# Altium footprint library PCB2.PcbLib: 98 footprints (part 6 of 7)
Each footprint in its own frame and in the unit in brackets; x right, y up, seen from the top. Pads: shape width x height; smd on the part's side, far side on the other; paste and mask are expansions set on the pad; w line width, h text height; cw(c..) or ccw(c..) is an arc to the next point about the centre after c.
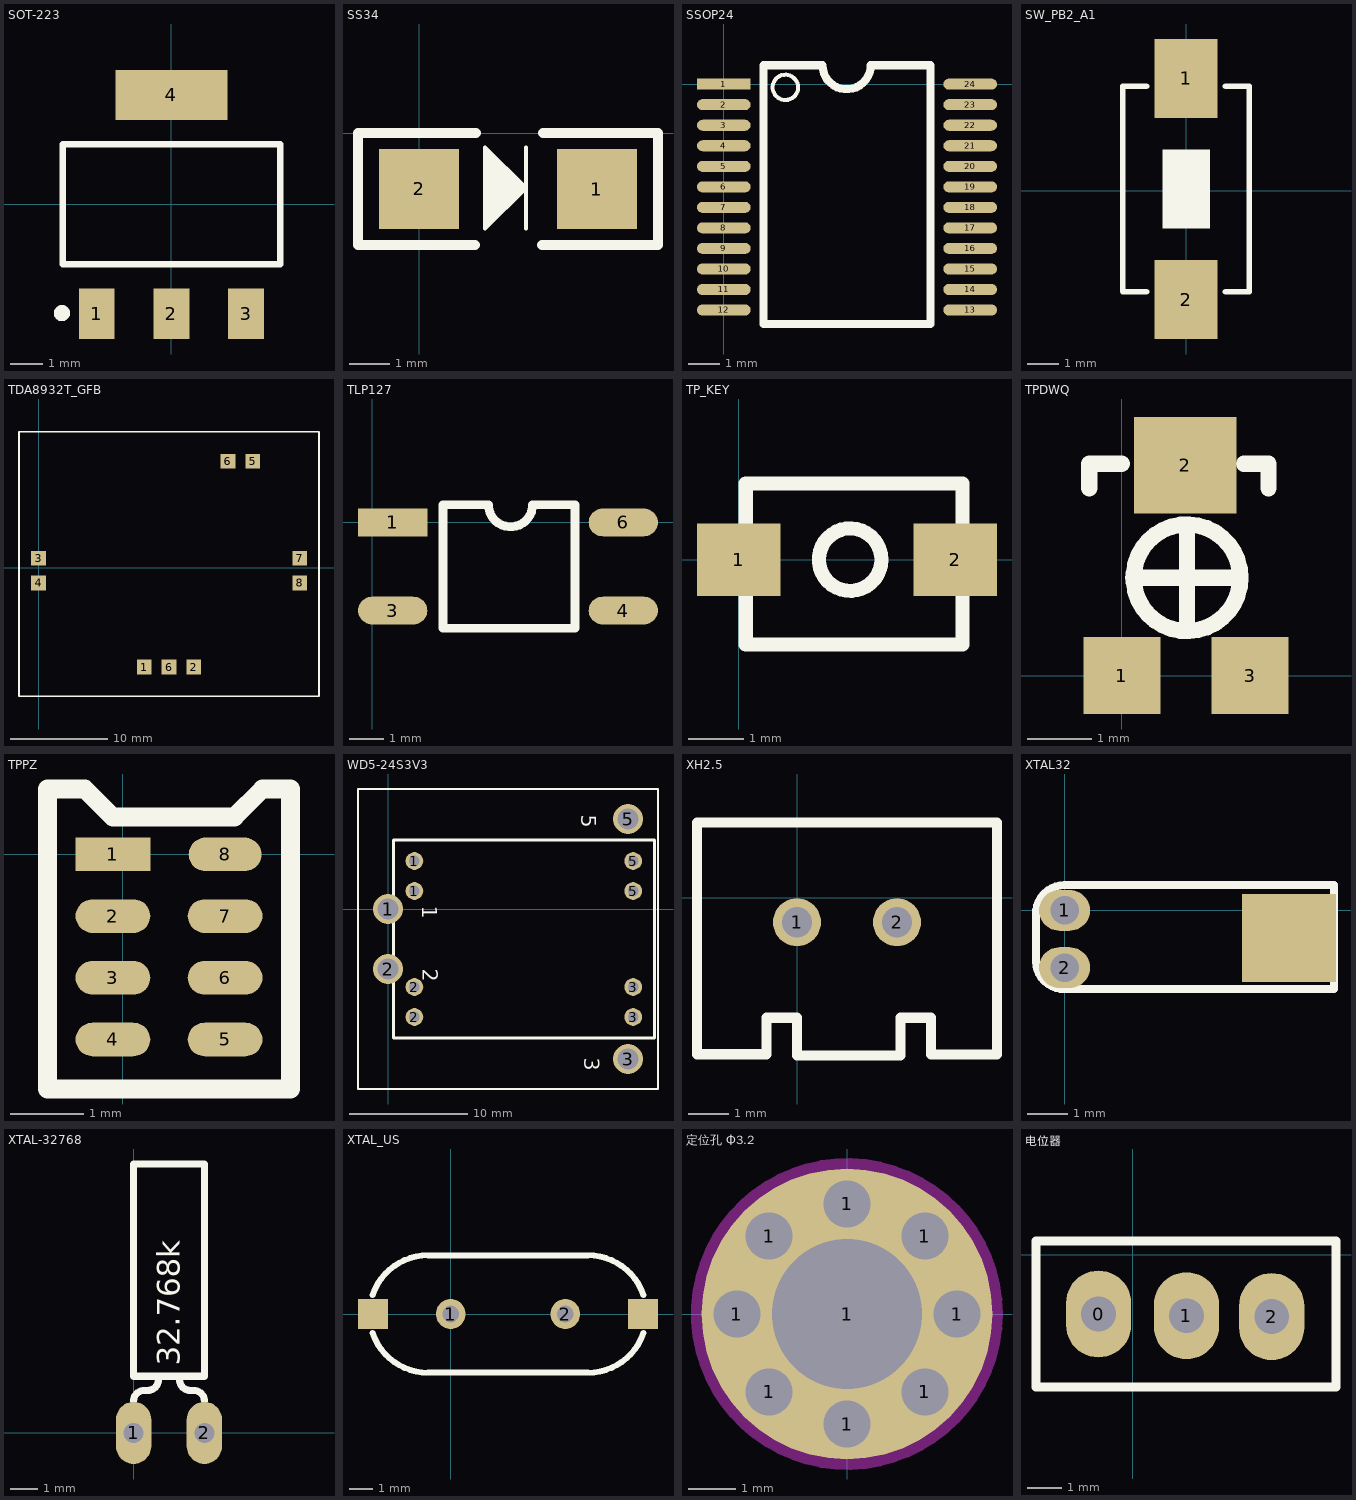
[diagram p5: the footprints below, top view; thin cyan lines are the x and y axes]

## SOT-223 [mm]
height 1.8
pads (4):
  rect 1.1x1.55 smd: 1(-2.3,-3.375) 2(0,-3.375) 3(2.3,-3.375)
  rect 3.45x1.55 smd: 4(0,3.375)
Top Overlay:
  circle w0.25: c-3.376,-3.353 r0.125
  lines w0.2: -3.35,-1.85 3.35,-1.85 3.35,1.85 -3.35,1.85 -3.35,-1.85
3D body: height 0.3, standoff 0, extent 1.905,-3.937 2.794,-2.032
3D body: height 0.3, standoff 0, extent -0.508,-3.937 0.381,-2.032
3D body: height 0.3, standoff 0, extent -2.794,-3.937 -1.905,-2.032
3D body: height 0.3, standoff 0, extent -1.651,2.159 1.651,3.429
3D body: height 0.8, standoff 0, extent -3.302,-2.032 3.302,2.159

## SS34 [mm]
pads (2):
  rect 2x2 smd: 1(4.445,-1.397) 2(0,-1.395)
Top Overlay:
  region: 1.651,-0.356 2.667,-1.372 1.651,-2.388
  lines w0.1: 2.667,-2.388 2.667,-1.372 ; 2.667,-0.356 2.667,-1.372 ; 2.667,-1.372 1.651,-0.356 1.651,-2.388 2.667,-1.372
  lines w0.254: 1.393,-2.79 -1.524,-2.79 -1.524,0 1.422,0 ; 3.077,-2.79 5.969,-2.79 5.969,0 3.099,0

## SSOP24 [mm]
pads (24):
  rect 1.7x0.35 smd: 1(0,0)
  oval 1.7x0.35 smd: 2(0,-0.65) 3(0,-1.3) 4(0,-1.95) 5(0,-2.6) 6(0,-3.25) 7(0,-3.9) 8(0,-4.55) 9(0,-5.2) 10(0,-5.85) 11(0,-6.5) 12(0,-7.15) 13(7.8,-7.15) 14(7.8,-6.5) 15(7.8,-5.85) 16(7.8,-5.2) 17(7.8,-4.55) 18(7.8,-3.9) 19(7.8,-3.25) 20(7.8,-2.6) 21(7.8,-1.95) 22(7.8,-1.3) 23(7.8,-0.65) 24(7.8,0)
Top Overlay:
  circle w0.127: c1.948,-0.1 r0.402
  lines w0.254: 1.25,-7.6 6.55,-7.6 6.55,0.6 4.65,0.6 cw(c3.888,0.6) 3.126,0.6 1.25,0.6 1.25,-7.6

## SW_PB2_A1 [mm]
pads (2):
  rect 2x2.5 smd: 1(0,3.556) 2(0,-3.444)
Top Overlay:
  region: -0.747,1.309 -0.747,-1.191 0.753,-1.191 0.753,1.309
  lines w0.178: -1.25,-3.194 -2,-3.19 -2,3.306 -1.25,3.306 ; 1.25,-3.194 2,-3.194 2,3.306 1.25,3.306
3D body: height 0.8, standoff 0, extent -2.032,-3.175 2.032,3.302
3D body: height 1.2, standoff 0.8, extent -0.762,-1.143 0.762,1.27

## TDA8932T_GFB [mm]
pads (9):
  rect 1.5x1.5 smd: 1(10.795,-10.149) 2(15.875,-10.149) 3(0,0.991) 4(0,-1.549) 5(21.9,10.891) 6(13.335,-10.149) 6(19.36,10.891) 7(26.7,0.991) 8(26.7,-1.549)
Top Overlay:
  lines w0.2: -2,-13.132 -1.27,-13.132 27.94,-13.132 28.67,-13.132 28.67,-12.065 28.67,0 28.67,10.795 28.67,13.906 27.94,13.906 19.05,13.906 -1.27,13.906 -2,13.906 -2,10.795 -2,0 -2,-12.065 -2,-13.132

## TLP127 [mm]
height 1.75
pads (4):
  rect 2x0.8 smd: 1(0.589,-0.001)
  oval 2x0.8 smd: 3(0.589,-2.541) 4(7.239,-2.541) 6(7.239,-0.001)
Top Overlay:
  lines w0.254: 2.04,0.507 2.04,-3.049 4.834,-3.049 5.85,-3.049 5.85,0.507 4.623,0.507 ; 2.041,0.508 3.353,0.508 ccw(c3.988,0.508) 4.623,0.508

## TP_KEY [mm]
pads (2):
  rect 1.5x1.3 smd: 1(0,0) 2(3.9,0)
Top Overlay:
  circle w0.254: c2.007,0 r0.562
  lines w0.254: 0.127,-1.528 0.127,1.372 4.027,1.372 4.027,-1.528 0.127,-1.528

## TPDWQ [mm]
pads (3):
  rect 1.2x1.2 smd: 1(0,0) 3(2,0)
  rect 1.6x1.5 smd: 2(0.991,3.277)
Top Overlay:
  circle w0.254: c1.016,1.524 r0.832
  lines w0.254: -0.508,2.921 -0.508,3.302 0,3.302 ; 0.178,1.524 1.848,1.524 ; 1.016,0.737 1.016,2.337 ; 1.905,3.302 2.286,3.302 2.286,2.921

## TPPZ [mil]
pads (8):
  rect 40x18 smd: 1(-5.35,-0.18)
  oval 40x18 smd: 2(-5.35,-33.18) 3(-5.35,-66.18) 4(-5.35,-99.18) 5(54.65,-99.18) 6(54.65,-66.18) 7(54.65,-33.18)
  oval 39x18 smd: 8(54.65,-0.18)
Top Overlay:
  lines w10: 89.65,14.82 89.65,34.82 74.65,34.82 59.65,19.82 -5.35,19.82 -20.35,34.82 -40.35,34.82 -40.35,26.32 -40.35,-125.68 89.65,-125.68 89.65,26.32

## WD5-24S3V3 [mm]
pads (12):
  round 2.54 hole 1.778: 1(0,0) 2(0,-5.08) 3(20.32,-12.7) 5(20.32,7.62)
  round 1.5 hole 0.9: 1(2.235,1.524) 1(2.235,4.064) 2(2.235,-9.144) 2(2.235,-6.604) 3(20.759,-9.144) 3(20.759,-6.604) 5(20.759,1.524) 5(20.759,4.064)
Top Overlay:
  lines w0.203: -2.54,-15.24 -2.54,10.16 22.86,10.16 22.86,-15.24 -2.54,-15.24
  lines w0.254: 0.457,4.064 0.457,5.842 ; 2.235,5.842 0.457,5.842 ; 0.457,5.842 22.555,5.842 22.555,-10.922 18.981,-10.922 0.457,-10.922 0.457,5.842
  text "5" at 16.358,7.976 h1.27
  text "3" at 16.612,-12.573 h1.27
  text "2" at 2.946,-5.055 h1.27
  text "1" at 2.896,0.279 h1.27

## XH2.5 [mm]
pads (2):
  round 1.2 hole 0.762: 1(0,-0.61) 2(2.5,-0.61)
Top Overlay:
  lines w0.254: -2.5,-3.912 -0.762,-3.912 -0.762,-2.997 0,-2.997 0,-3.937 2.591,-3.937 2.591,-2.997 3.353,-2.997 3.353,-3.92 5,-3.92 5,0 5,1.88 0,1.88 -2.5,1.88 -2.5,0 -2.5,-3.912

## XTAL32 [mil]
pads (3):
  oval 50x40 hole 28: 1(0,0) 2(0,-56)
  rect 92.13x86 smd: ""(220,-27)
Top Overlay:
  lines w8: -28,-50 ccw(c-0.5,-49.5) 0,-77 264,-77 264,25 0,25 ccw(c0.5,-3.5) -28,-4 -28,-50

## XTAL-32768 [mil]
pads (2):
  oval 50x88 hole 28: 1(0,0) 2(100,0)
Top Overlay:
  lines w10: 0,45 cw(c15,45) 15,60 20,60 ccw(c20,75) 35,75 ; 65,75 ccw(c80,75) 80,60 85,60 cw(c85,45) 100,45 ; 0,80 100,80 100,380 0,380 0,80
  text "32.768k" at 65,95 h32
3D body "User Library-Crystal TH.STEP": height 125.98, standoff 0, extent -17.91,-28.43 117.91,395.79

## XTAL_US [mil]
pads (4):
  round 50 hole 28: 1(0,0) 2(192.13,0)
  rect 50x50 smd: ""(-130.32,0) ""(322.44,0)
Top Overlay:
  lines w10: -130.92,-31.85 ccw(c-37.79,0) -37.79,-98.42 ; -130.92,31.85 cw(c-37.79,0) -37.79,98.43 ; -38,98.42 229.92,98.43 cw(c229.92,0) 323.05,31.85 ; -37.8,-98.43 229.92,-98.42 ccw(c229.92,0) 323.05,-31.85

## 定位孔 Φ3.2 [mm]
pads (9):
  round 1 hole 1: 1(-2.35,0) 1(-1.662,-1.662) 1(-1.662,1.662) 1(0,-2.35) 1(0,2.35) 1(1.662,-1.662) 1(1.662,1.662) 1(2.35,0)
  round 6.2 hole 3.2: 1(0,0)
Keep-Out Layer:
  circle w0.254: c0,0 r3.2

## 电位器 [mil]
height 10
pads (3):
  oval 75x100 hole 40: 0(-39,-68) 1(62,-70) 2(160,-71)
Top Overlay:
  lines w10: -111,-152 234,-152 234,16 -111,16 -111,-152
3D body "3296W.STEP": height 452.76, standoff -118.11, extent -127.65,-171.16 246.36,25.69